# Altium footprint library RELAY_SHRACK_RT2.PcbLib: 1 footprints
Each footprint in its own frame and in the unit in brackets; x right, y up, seen from the top. Pads: shape width x height; smd on the part's side, far side on the other; paste and mask are expansions set on the pad; w line width, h text height; cw(c..) or ccw(c..) is an arc to the next point about the centre after c.
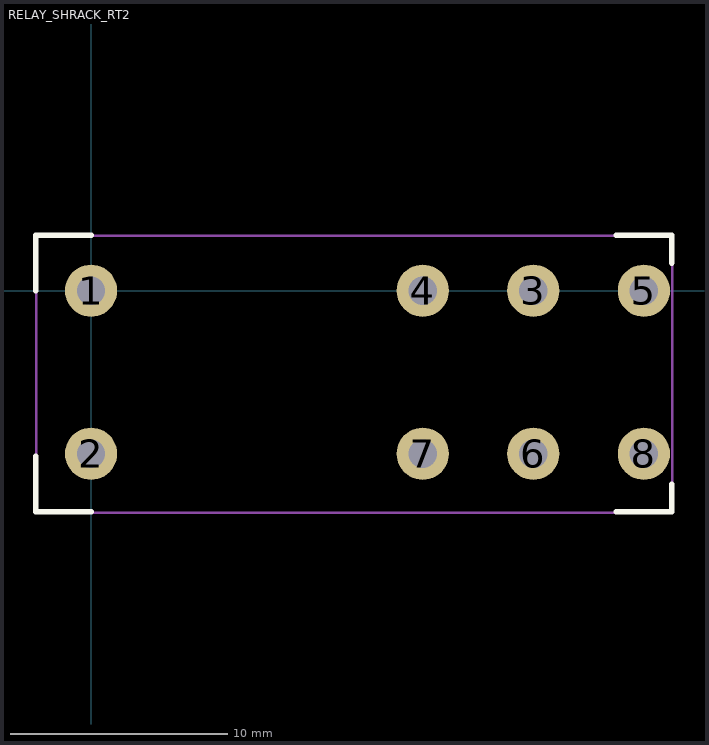
[diagram p0: the footprint, top view; thin cyan lines are the x and y axes]

## RELAY_SHRACK_RT2 [mm]
pads (8):
  round 2.4 hole 1.3: 1(0,0) 2(0,-7.493) 3(20.32,0) 4(15.24,0) 5(25.4,0) 6(20.32,-7.493) 7(15.24,-7.493) 8(25.4,-7.493)
Top Overlay:
  lines w0.254: -2.54,-7.62 -2.54,-10.16 0,-10.16 ; -2.54,0 -2.54,2.54 0,2.54 ; 24.13,-10.16 26.67,-10.16 26.67,-8.89 ; 24.13,2.54 26.67,2.54 26.67,1.27
Mechanical 13:
  lines w0.127: -2.525,-10.175 -2.525,2.525 26.7,2.525 26.7,-10.2 -2.5,-10.2 -2.525,-10.175
3D body: height 16, standoff 0, extent -2.525,-10.2 26.7,2.525